# EAGLE library part MA09246 (library golledge)
SAW Filter Example 433.920MHz Datasheet and Purchasing Information <http://www.golledge.com/docs/products/saw/gsrf_list.htm?src=eagle>
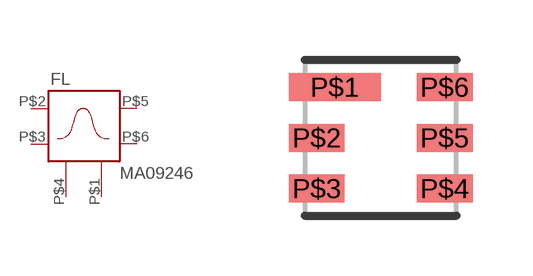
[diagram p5: symbol with the pads of SAW3.8X3.8P6; footprint SAW3.8X3.8P6]

Designator prefix FL

## MA09246 (HEIGHT: 1.5)  [SAW3.8X3.8P6]
P$1  CASE  pas
P$2  IN  pas
P$3  GND  pas
P$4  CASE  pas
P$5  OUT  pas
P$6  GND  pas

## Footprint SAW3.8X3.8P6 (pad centres in mm)
6 pad variant of 3.8mm square SAW package
smd 2.3 x 0.7: P$1 -1.15,1.27
smd 1.4 x 0.7: P$2 -1.6,0; P$3 -1.6,-1.27; P$4 1.6,-1.27; P$5 1.6,0; P$6 1.6,1.27